# Altium footprint library PCB - LEADED - SOIC - TI SOIC-8 DDA0008B.PcbLib: 1 footprints
Each footprint in its own frame and in the unit in brackets; x right, y up, seen from the top. Pads: shape width x height; smd on the part's side, far side on the other; paste and mask are expansions set on the pad; w line width, h text height; cw(c..) or ccw(c..) is an arc to the next point about the centre after c.
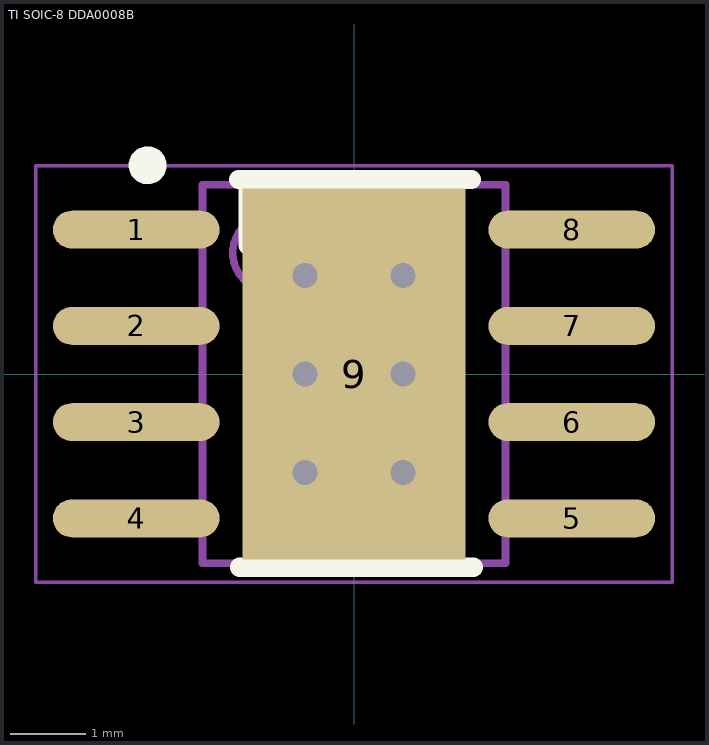
[diagram p0: the footprint, top view; thin cyan lines are the x and y axes]

## TI SOIC-8 DDA0008B [mm] "SOIC, 8-Leads, Body 4.90x3.90mm, Pitch 1.27mm, Thermal Pad 4.90x2.95mm, IPC Medium Density"
height 1.7
pads (9):
  oval 2.2x0.5 smd: 1(-2.875,1.905) 2(-2.875,0.635) 3(-2.875,-0.635) 4(-2.875,-1.905) 5(2.875,-1.905) 6(2.875,-0.635) 7(2.875,0.635) 8(2.875,1.905)
  rect 2.95x4.9 smd paste-2539.97 mask+0.102: 9(0,0)
via 0.65,1.3 diameter 0.5 hole 0.33
via 0.65,-1.3 diameter 0.5 hole 0.33
via -0.65,-1.3 diameter 0.5 hole 0.33
via -0.65,0 diameter 0.5 hole 0.33
via -0.65,1.3 diameter 0.5 hole 0.33
via 0.65,0 diameter 0.5 hole 0.33
Top Overlay:
  circle w0.25: c-2.725,2.755 r0.125
  region: -1.4,2.525 -1.35,2.475 -0.575,2.475 -1.362,1.687
  lines w0.254: -1.524,2.567 1.55,2.567 ; -1.512,-2.55 1.575,-2.55 ; -1.4,2.525 -1.4,1.7 -1.35,1.7 -0.725,2.325 -0.575,2.475
Top Paste:
  region: -0.8,0.975 0.775,0.975 0.775,0.325 -0.8,0.325
  region: -0.787,-0.325 0.788,-0.325 0.788,-0.975 -0.787,-0.975
  region: -0.25,1.5 0.25,1.5 0.25,0.975 -0.25,0.975
  region: -0.225,-0.975 0.275,-0.975 0.275,-1.5 -0.225,-1.5
  region: -0.25,0.275 0.25,0.275 0.25,-0.25 -0.25,-0.25
Top Solder:
  region: -1.175,1.55 1.2,1.55 1.2,-1.55 -1.175,-1.55
Mechanical 13:
  circle w0.1: c-1.1,1.6 r0.5
  lines w0.1: -2,-2.5 -2,2.5 2,2.5 2,-2.5 -2,-2.5
Mechanical 15:
  lines w0.05: -4.2,-2.75 -4.2,2.75 4.2,2.75 4.2,-2.75 -4.2,-2.75
  lines w0.1: -0.5,0 0.5,0 ; 0,-0.5 0,0.5
3D body "TI SOIC-8 DDA0008B.step": height 1.7, standoff 0, extent -3,-2.5 3,2.5